# Altium schematic symbol library SCH - MCU - NUVOTON - NUVOTON ML51FB9AE.SchLib: 1 symbol
Pins are listed as number, name and electrical type; pins without a type are passive.

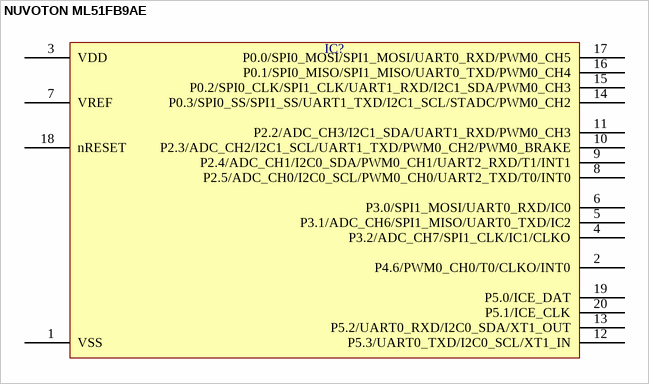
[diagram p0: symbol NUVOTON ML51FB9AE]

## NUVOTON ML51FB9AE
designator IC?  (value not drawn)
pins: 1 VSS, 2 P4.6/PWM0_CH0/T0/CLKO/INT0, 3 VDD, 4 P3.2/ADC_CH7/SPI1_CLK/IC1/CLKO, 5 P3.1/ADC_CH6/SPI1_MISO/UART0_TXD/IC2, 6 P3.0/SPI1_MOSI/UART0_RXD/IC0, 7 VREF, 8 P2.5/ADC_CH0/I2C0_SCL/PWM0_CH0/UART2_TXD/T0/INT0, 9 P2.4/ADC_CH1/I2C0_SDA/PWM0_CH1/UART2_RXD/T1/INT1, 10 P2.3/ADC_CH2/I2C1_SCL/UART1_TXD/PWM0_CH2/PWM0_BRAKE, 11 P2.2/ADC_CH3/I2C1_SDA/UART1_RXD/PWM0_CH3, 12 P5.3/UART0_TXD/I2C0_SCL/XT1_IN, 13 P5.2/UART0_RXD/I2C0_SDA/XT1_OUT, 14 P0.3/SPI0_SS/SPI1_SS/UART1_TXD/I2C1_SCL/STADC/PWM0_CH2, 15 P0.2/SPI0_CLK/SPI1_CLK/UART1_RXD/I2C1_SDA/PWM0_CH3, 16 P0.1/SPI0_MISO/SPI1_MISO/UART0_TXD/PWM0_CH4, 17 P0.0/SPI0_MOSI/SPI1_MOSI/UART0_RXD/PWM0_CH5, 18 nRESET, 19 P5.0/ICE_DAT, 20 P5.1/ICE_CLK